# EAGLE library part 691332510016 (library WR-TBL Pluggable Connector)
WR-TBL Serie 3325 - 5.08 mm Double Level Horizontal Male PCB Header with Flanges & Nut Type KIND PROPERTIES Pitch 5.08 mm MATERIAL PROPERTIES Insulator Material PA66 Insulator Flammability Rating UL94 V-0 Contact Material Brass Contact Plating Tin GENERAL INFORMATION Operating Temperature -40 up to +105 °C Compliance RoHS ELECTRICAL PROPERTIES IR UL 20 A Working Voltage [UL] 300 V (AC) Withstanding Voltage [cULus] 1600 V (AC) Contact Resistance [cULus] 20 mΩ CERTIFICATION cULus Approval E315414 <https://www.we-online.com/catalog/media/o60739v209%20Family_WR-TBL_3325_691332510004.jpg> Details see: https://www.we-online.com/catalog/en/TBL_5_08_3325_DOUBLE_LEVEL_HORIZONTAL_MALE_PCB_HEADER_W_FLANGES_AND_NUT_6913325100XX/ Updated by Ella Wu 2019-12-26 2022(C) Wurth Elektronik
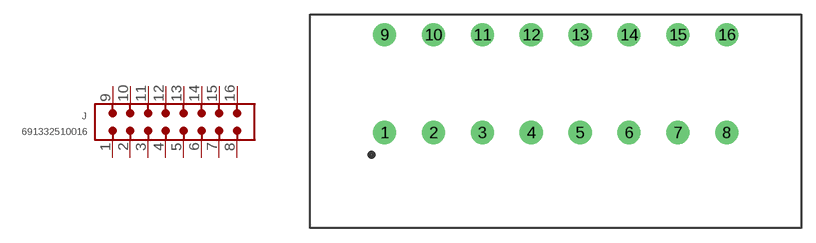
[diagram p360: symbol with the pads of 691332510016; footprint 691332510016]

Designator prefix J

## 691332510016 (DATASHEET-URL: https://www.we-online.com/redexpert/spec/691332510016?ae; IR-UL: 20A; MOUNT: THT; PART-NUMBER: 691332510016; PINS: 16; PITCH: 5.08mm; TYPE: Double Level Horizontal; VALUE: 691332510016; WORKING-VOLTAGE-UL: 300V (AC))  [691332510016]
1  1  pas
2  2  pas
3  3  pas
4  4  pas
5  5  pas
6  6  pas
7  7  pas
8  8  pas
9  9  pas
10  10  pas
11  11  pas
12  12  pas
13  13  pas
14  14  pas
15  15  pas
16  16  pas

## Footprint 691332510016 (pad centres in mm)
WR-TBL Serie 3325 - 5.08 mm Double Level Horizontal Male PCB Header with Flanges & Nut Type Max Height = 28.8mm , Pitch 5.08mm , 16pins
drill 1.6: 1 -17.78,-5.08; 2 -12.7,-5.08; 3 -7.62,-5.08; 4 -2.54,-5.08; 5 2.54,-5.08; 6 7.62,-5.08; 7 12.7,-5.08; 8 17.78,-5.08; 9 -17.78,5.08; 10 -12.7,5.08; 11 -7.62,5.08; 12 -2.54,5.08; 13 2.54,5.08; 14 7.62,5.08; 15 12.7,5.08; 16 17.78,5.08